# EAGLE library part DS36277 (library IC)
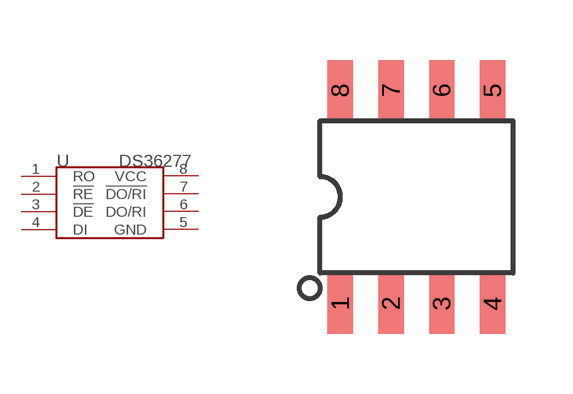
[diagram p48: symbol with the pads of SOP8; footprint SOP8]

Designator prefix U

## DS36277  [SOP8]
1  RO
2  !RE
3  !DE
4  DI
5  GND
6  DO/RI
7  !DO/RI
8  VCC

## Footprint SOP8 (pad centres in mm)
SMALL OUTLINE PACKAGE
smd 0.635 x 1.524: 1 -1.905,-2.667; 2 -0.635,-2.667; 3 0.635,-2.667; 4 1.905,-2.667; 5 1.905,2.667; 6 0.635,2.667; 7 -0.635,2.667; 8 -1.905,2.667